# Altium footprint library optoelectronics.PcbLib: 4 footprints
Each footprint in its own frame and in the unit in brackets; x right, y up, seen from the top. Pads: shape width x height; smd on the part's side, far side on the other; paste and mask are expansions set on the pad; w line width, h text height; cw(c..) or ccw(c..) is an arc to the next point about the centre after c.
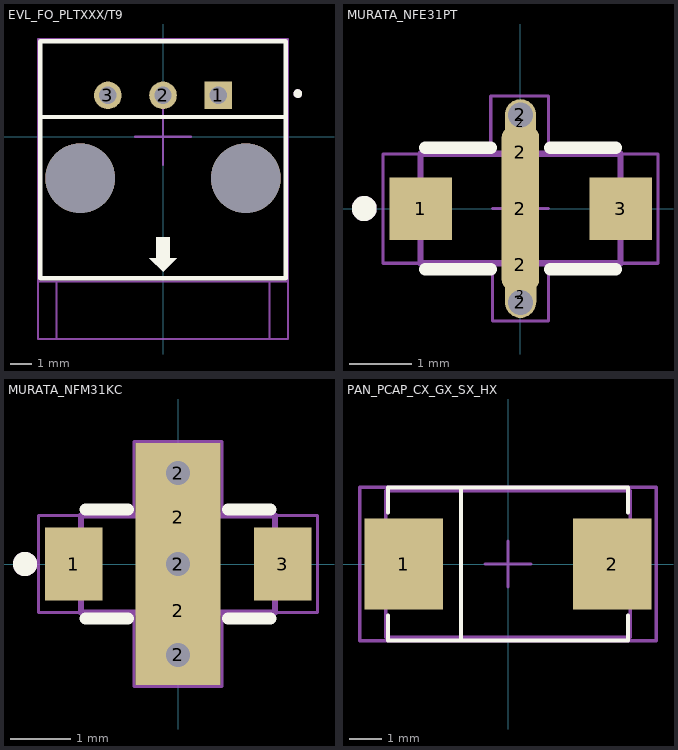
[diagram p0: the footprints below, top view; thin cyan lines are the x and y axes]

## EVL_FO_PLTXXX/T9 [mm]
pads (5):
  rect 1.27x1.27 hole 0.8: 1(2.54,1.905)
  round 1.27 hole 0.8: 2(0,1.905) 3(-2.54,1.905)
  round 3.2 hole 3.2 unplated: ""(-3.81,-1.905) ""(3.81,-1.905)
Top Overlay:
  circle w0.2: c6.2,1.985 r0.1
  region: 0.318,-5.579 0.635,-5.579 0,-6.214 -0.635,-5.579 -0.317,-5.579 -0.317,-4.627 0.318,-4.627
  lines w0.2: -5.65,0.905 5.65,0.905 ; -5.65,0.905 -5.65,-6.515 5.65,-6.515 5.65,0.905 ; -5.65,0.905 -5.65,4.385 5.65,4.385 5.65,0.905
Mechanical 1:
  circle w0.2: c6.2,1.985 r0.1
  lines w0.1: -5.75,-9.304 5.75,-9.304 5.75,4.495 -5.75,4.495 -5.75,-9.304
Mechanical 15:
  lines w0.1: -4.9,-6.663 -4.9,-9.302 4.9,-9.302 4.9,-6.663 ; -1.294,0 1.293,0 ; 0,-1.287 0,1.3 ; -5.75,-6.663 -5.75,4.493 5.749,4.493 5.749,-6.663 -5.75,-6.663
3D body "User Library-PLT133_T9.STEP": height 19.34, standoff -3.96, extent -5.75,-9.305 5.75,4.495

## MURATA_NFE31PT [mm]
pads (9):
  rect 1x1 smd: 1(-1.6,0) 3(1.6,0)
  rrect50% 0.6x0.6 smd: 2(-0.001,-0.9) 2(-0.001,0.9)
  rrect50% 0.6x2.6 smd mask+0: 2(-0.001,0)
  rect 0.5x0.25 smd mask+0: 2(-0.001,1.374) 2(0.003,-1.376)
  round 0.5 hole 0.4 mask+0: 2(0,-1.5) 2(0,1.5)
Top Layer:
  pour cut-out: 0.8,2.125
  pour cut-out: -1.8,2.425
Top Overlay:
  circle w0.2: c-2.5,0 r0.1
  lines w0.2: -1.525,-0.975 -0.475,-0.975 ; -1.525,0.975 -0.475,0.975 ; 0.475,-0.975 1.525,-0.975 ; 0.475,0.975 1.525,0.975
Mechanical 1:
  circle w0.2: c-2.5,0 r0.1
  lines w0.1: -1.6,-0.875 1.6,-0.875 1.6,0.875 -1.6,0.875 -1.6,-0.875
Mechanical 15:
  lines w0.05: -0.45,0 0.45,0 ; 0,-0.45 0,0.45 ; -2.2,-0.875 -0.45,-0.875 -0.45,-1.8 0.45,-1.8 0.45,-0.875 2.2,-0.875 2.2,0.875 0.45,0.875 0.45,1.8 -0.475,1.8 -0.475,0.875 -2.2,0.875 -2.2,-0.875
3D body "NFE31PT222Z1E9L--3DModel-STEP-1.STEP": height 1.59, standoff -0.01, extent -1.6,-0.875 1.6,0.875

## MURATA_NFM31KC [mm]
pads (8):
  rect 0.95x1.2 smd: 1(-1.725,0) 3(1.725,0)
  round 0.5 hole 0.4 mask+0: 2(0,-1.5) 2(0,0) 2(0,1.5)
  rect 1x0.7 smd: 2(0,-0.775) 2(0,0.775)
  rect 1.4x4 smd mask+0: 2(0,0)
Top Overlay:
  circle w0.2: c-2.525,0 r0.1
  lines w0.2: -1.525,-0.9 -0.825,-0.9 ; -1.525,0.9 -0.825,0.9 ; 0.825,-0.9 1.525,-0.9 ; 0.825,0.9 1.525,0.9
Top Solder:
  region: -1.25,-0.6 -2.2,-0.6 -2.2,0.6 -1.25,0.6
  region: 2.2,-0.6 1.25,-0.6 1.25,0.6 2.2,0.6
Mechanical 1:
  circle w0.2: c-2.525,0 r0.1
  lines w0.1: -1.6,-0.8 1.6,-0.8 1.6,0.8 -1.6,0.8 -1.6,-0.8
Mechanical 15:
  lines w0.05: -0.525,0 0.525,0 ; 0,-0.525 0,0.525 ; -2.3,-0.8 -0.725,-0.8 -0.725,-2.025 0.725,-2.025 0.725,-0.8 2.3,-0.8 2.3,0.8 0.725,0.8 0.725,2.025 -0.725,2.025 -0.725,0.8 -2.3,0.8 -2.3,-0.8
3D body "NFM31KC104R1H3L.STEP": height 1.5, standoff 0, extent -1.6,-0.8 1.6,0.8

## PAN_PCAP_CX_GX_SX_HX [mm]
pads (2):
  rect 2.4x2.8 smd: 1(-3.2,0) 2(3.2,0)
Top Overlay:
  lines w0.127: -3.675,-1.575 -3.675,-2.35 3.675,-2.35 3.675,-1.575 ; -3.675,1.575 -3.675,2.35 3.675,2.35 3.675,1.575 ; -1.444,-2.325 -1.444,2.325
Mechanical 1:
  lines w0.1: -1.45,-2.25 -1.45,2.25 ; -3.75,-2.25 -3.75,2.25 3.75,2.25 3.75,-2.25 -3.75,-2.25
Mechanical 15:
  lines w0.1: -0.7,-0.001 0.7,0 ; 0.001,0.697 0.002,-0.703 ; -4.55,-2.35 4.55,-2.35 4.55,2.35 -4.55,2.35 -4.55,-2.35
3D body "PCAP_EEF_CX_PAN.step": height 2.16, standoff 0, extent -3.746,-2.248 3.746,2.248